# Altium integrated library NX3215SA-32.768KHZ.IntLib: 1 symbol
Pins are listed as number, name and electrical type; pins without a type are passive.

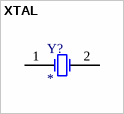
[diagram p0: symbol XTAL]

## XTAL
designator Y?
32.768khz; ComponentLink1Description: link; ComponentLink1URL: https://www.digikey.es/product-detail/es/ndk-america-inc/NX3215SA-32-768KHZ-EXS00A-MU00525/644-1386-1-ND/9172114?utm_adgroup=General&utm_source=google&utm_medium=cpc&utm_campaign=Dynamic%20Search_ES_Product&utm_term=&productid=&gclid=CjwKCAiAp8iMBhAqEiwAJb94z_k-Ye4pqILYQf7kZFlDHLDMwHQAHOpsqadl6kYaE0FHCNXc0YZ_rBoC1R0QAvD_BwE; ComponentLink2Description: datasheet; ComponentLink2URL: https://www.ndk.com/images/products/catalog/c_NX3215SA_e.pdf
footprint XTAL
pins: 1 OSC1, 2 OSC2